# EAGLE library part MQ_135_A (library misc)
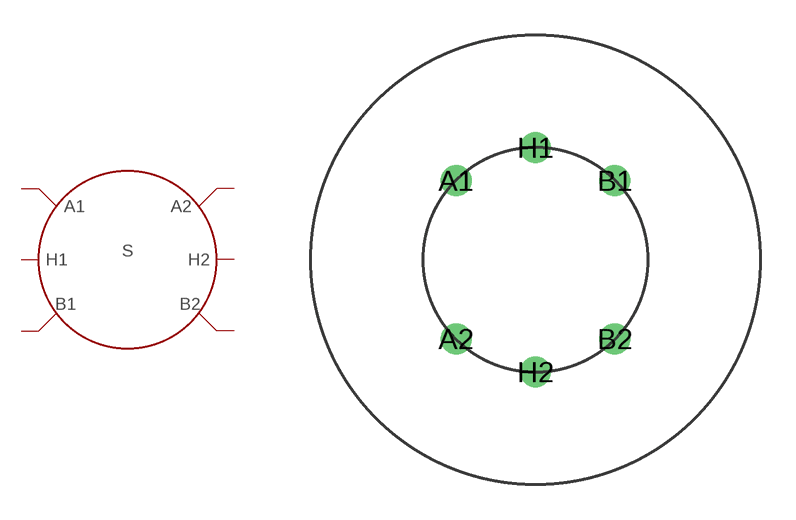
[diagram p86: symbol with the pads of MQ-135; footprint MQ-135]

Designator prefix S

## MQ_135_A (MANF#: MQ135)  [MQ-135]
A1  A1
A2  A2
B1  B1
B2  B2
H1  H1
H2  H2

## Footprint MQ-135 (pad centres in mm)
drill 0.8: A1 -3.36,3.35; A2 -3.36,-3.35; B1 3.36,3.35; B2 3.36,-3.35; H1 0,4.75; H2 0,-4.75